# Altium footprint library BuckConverter.PcbLib: 3 footprints
Each footprint in its own frame and in the unit in brackets; x right, y up, seen from the top. Pads: shape width x height; smd on the part's side, far side on the other; paste and mask are expansions set on the pad; w line width, h text height; cw(c..) or ccw(c..) is an arc to the next point about the centre after c.
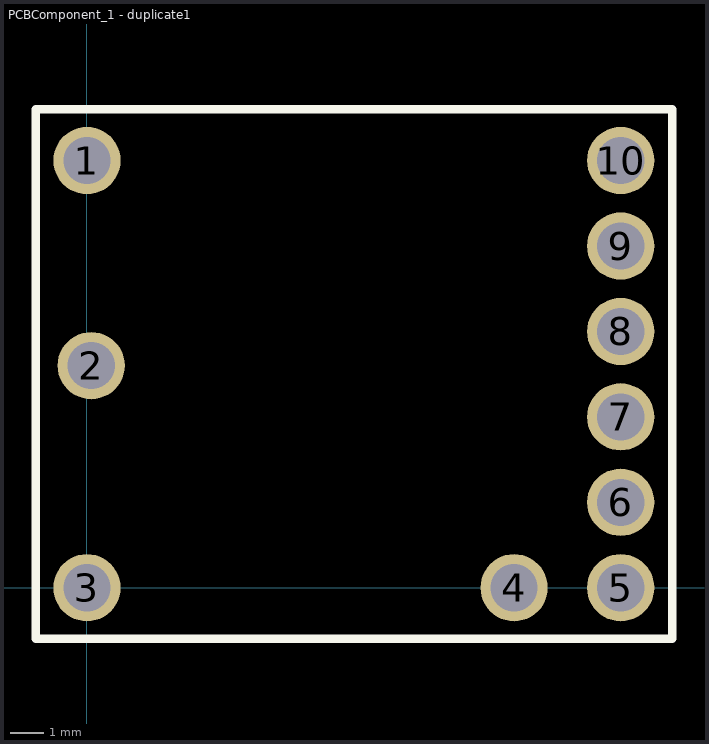
[diagram p0: the footprints below, top view; thin cyan lines are the x and y axes]

## PCBComponent_1 [mm]

## PCBComponent_1 - duplicate [mm]

## PCBComponent_1 - duplicate1 [mm]
pads (10):
  round 2 hole 1.4: 1(0,12.7) 2(0.127,6.604) 3(0,0) 4(12.7,0) 5(15.87,0) 6(15.87,2.54) 7(15.87,5.08) 8(15.87,7.62) 9(15.87,10.16) 10(15.87,12.7)
Top Overlay:
  lines w0.254: -1.52,-1.52 -1.52,14.23 17.4,14.23 17.4,-1.52 -1.52,-1.52